# Altium footprint library MyLibs_Passives.PcbLib: 1 footprints
Each footprint in its own frame and in the unit in brackets; x right, y up, seen from the top. Pads: shape width x height; smd on the part's side, far side on the other; paste and mask are expansions set on the pad; w line width, h text height; cw(c..) or ccw(c..) is an arc to the next point about the centre after c.
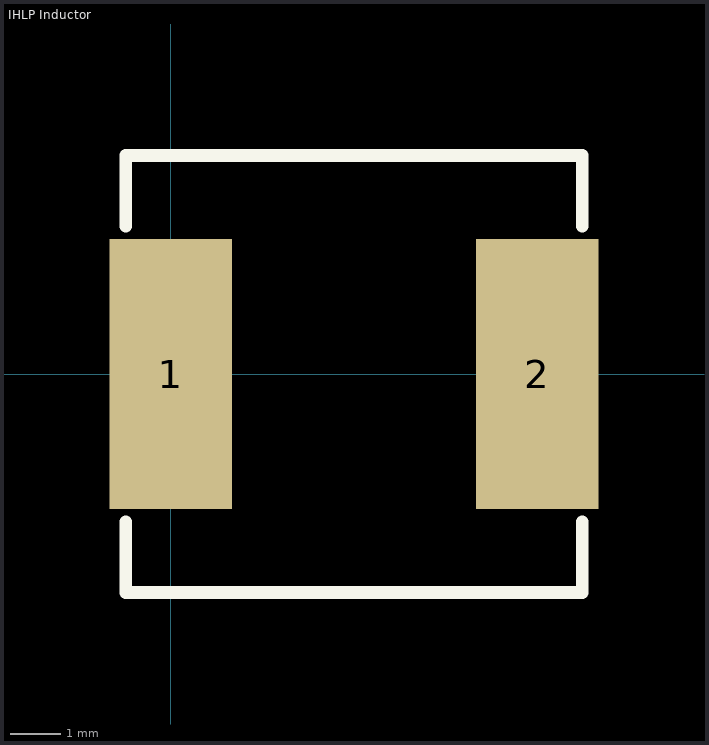
[diagram p0: the footprint, top view; thin cyan lines are the x and y axes]

## IHLP Inductor [mil] "IHLP® Commercial Inductors, High Saturation Series"
height 157.48
pads (2):
  rect 95x210 smd: 1(0,0) 2(285,0)
Top Overlay:
  lines w10: -35,-115 -35,-170 320,-170 320,-115 ; -35,115 -35,170 320,170 320,115
Top Designator:
  text ".Designator" at 299.93,10.5 h31.5
3D body: height 157.48, standoff 0, extent -30,-165 315,165